# EAGLE library part MCP6547 (library microchip_comparators)
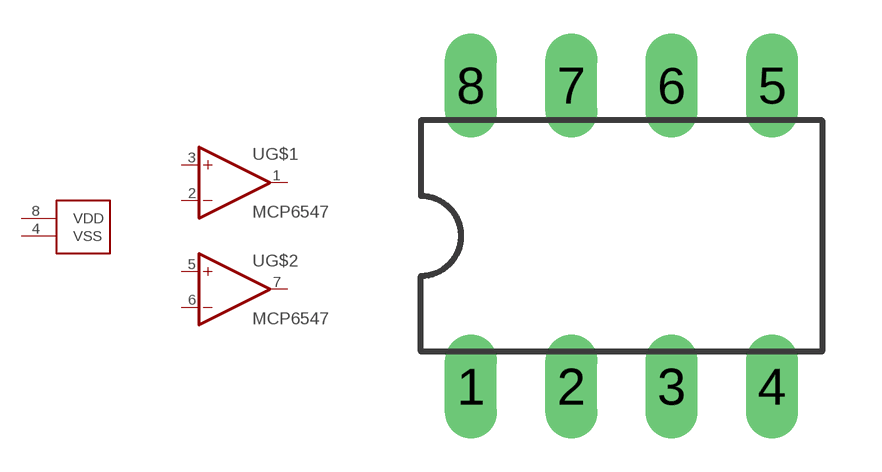
[diagram p0: symbol with the pads of DIL08; footprint DIL08]

Designator prefix -; gates G$1=OPAMP G$2=OPAMP G$3=POWER_PINS

## MCP6547  [DIL08]
1  G$1:OUT  out
2  G$1:-IN  in
3  G$1:+IN  in
4  G$3:VSS
5  G$2:+IN  in
6  G$2:-IN  in
7  G$2:OUT  out
8  G$3:VDD

## Footprint DIL08 (pad centres in mm)
drill 0.813 long: 1 -3.81,-3.81; 2 -1.27,-3.81; 3 1.27,-3.81; 4 3.81,-3.81; 5 3.81,3.81; 6 1.27,3.81; 7 -1.27,3.81; 8 -3.81,3.81